# Altium integrated library IR2102SPBF.IntLib: 1 symbol
Pins are listed as number, name and electrical type; pins without a type are passive.

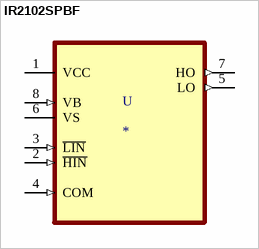
[diagram p0: symbol IR2102SPBF]

## IR2102SPBF
designator U
Floating channel designed for bootstrap operation | Fully operational to +600 V | Tolerant to negative transient voltage | dV/dt immune | Gate drive supply range from 10 to 20 V | Undervoltage lockout | 3.3 V, 5 V, and 15 V logic input compatible | Matched propagation delay for both channels | Outputs out of phase with inputs or in phase with inputs _IR2101_; MP: IR2102SPBF; MF: Infineon; Value: *; SnapEDA_Link: https://www.snapeda.com/parts/IR2102SPBF/Infineon%20Technologies/view-part/233796/?ref=snap; Availability: Unavailable; Price: None; Package: SOIC-8 International Rectifier
footprint SOIC127P600X175-8N
pins: 1 VCC (power), 2 ~{HIN} (in), 3 ~{LIN} (in), 4 COM (in), 5 LO (out), 6 VS (power), 7 HO (out), 8 VB (in)